# EAGLE library part LED-SMT-6-PLCC (library FlashPCB_Diodes)
LED-RGB-6-PLCC - LED RGB DIFFUSED 6PLCC SMD Technical Specifications: Independently controlled RGB LED Voltage : 2.2V Red, 3.3V Green/Blue Current: 20mA Per Color Component Search: LTST-G563EGBW <https://www.flashpcb.com/components> Datasheet: LTST-G563EGBW.pdf <https://optoelectronics.liteon.com/upload/download/DS22-2012-0212/LTST-G563EGBW.pdf>
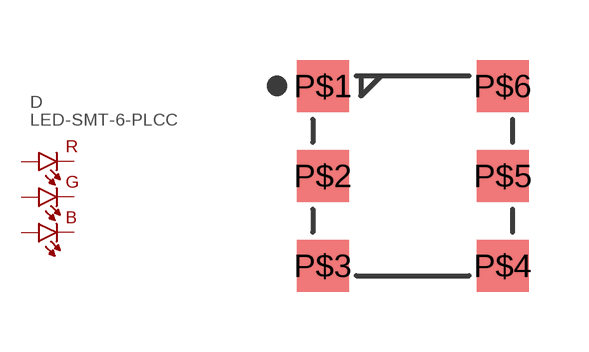
[diagram p1: symbol with the pads of 6-PLCC(5X5); footprint 6-PLCC(5X5)]

Designator prefix D

## LED-SMT-6-PLCCLTST-G563  [6-PLCC(5X5)]
P$1  B_K  pas
P$2  G_K  pas
P$3  R_K  pas
P$4  R_AN  pas
P$5  G_AN  pas
P$6  B_AN  pas

## Footprint 6-PLCC(5X5) (pad centres in mm)
smd 1.3 x 1.3: P$1 -2.25,2.25; P$2 -2.25,0; P$3 -2.25,-2.25; P$4 2.25,-2.25; P$5 2.25,0; P$6 2.25,2.25